# Altium footprint library WS-TASV.PcbLib: 37 footprints (part 1 of 3)
Each footprint in its own frame and in the unit in brackets; x right, y up, seen from the top. Pads: shape width x height; smd on the part's side, far side on the other; paste and mask are expansions set on the pad; w line width, h text height; cw(c..) or ccw(c..) is an arc to the next point about the centre after c.
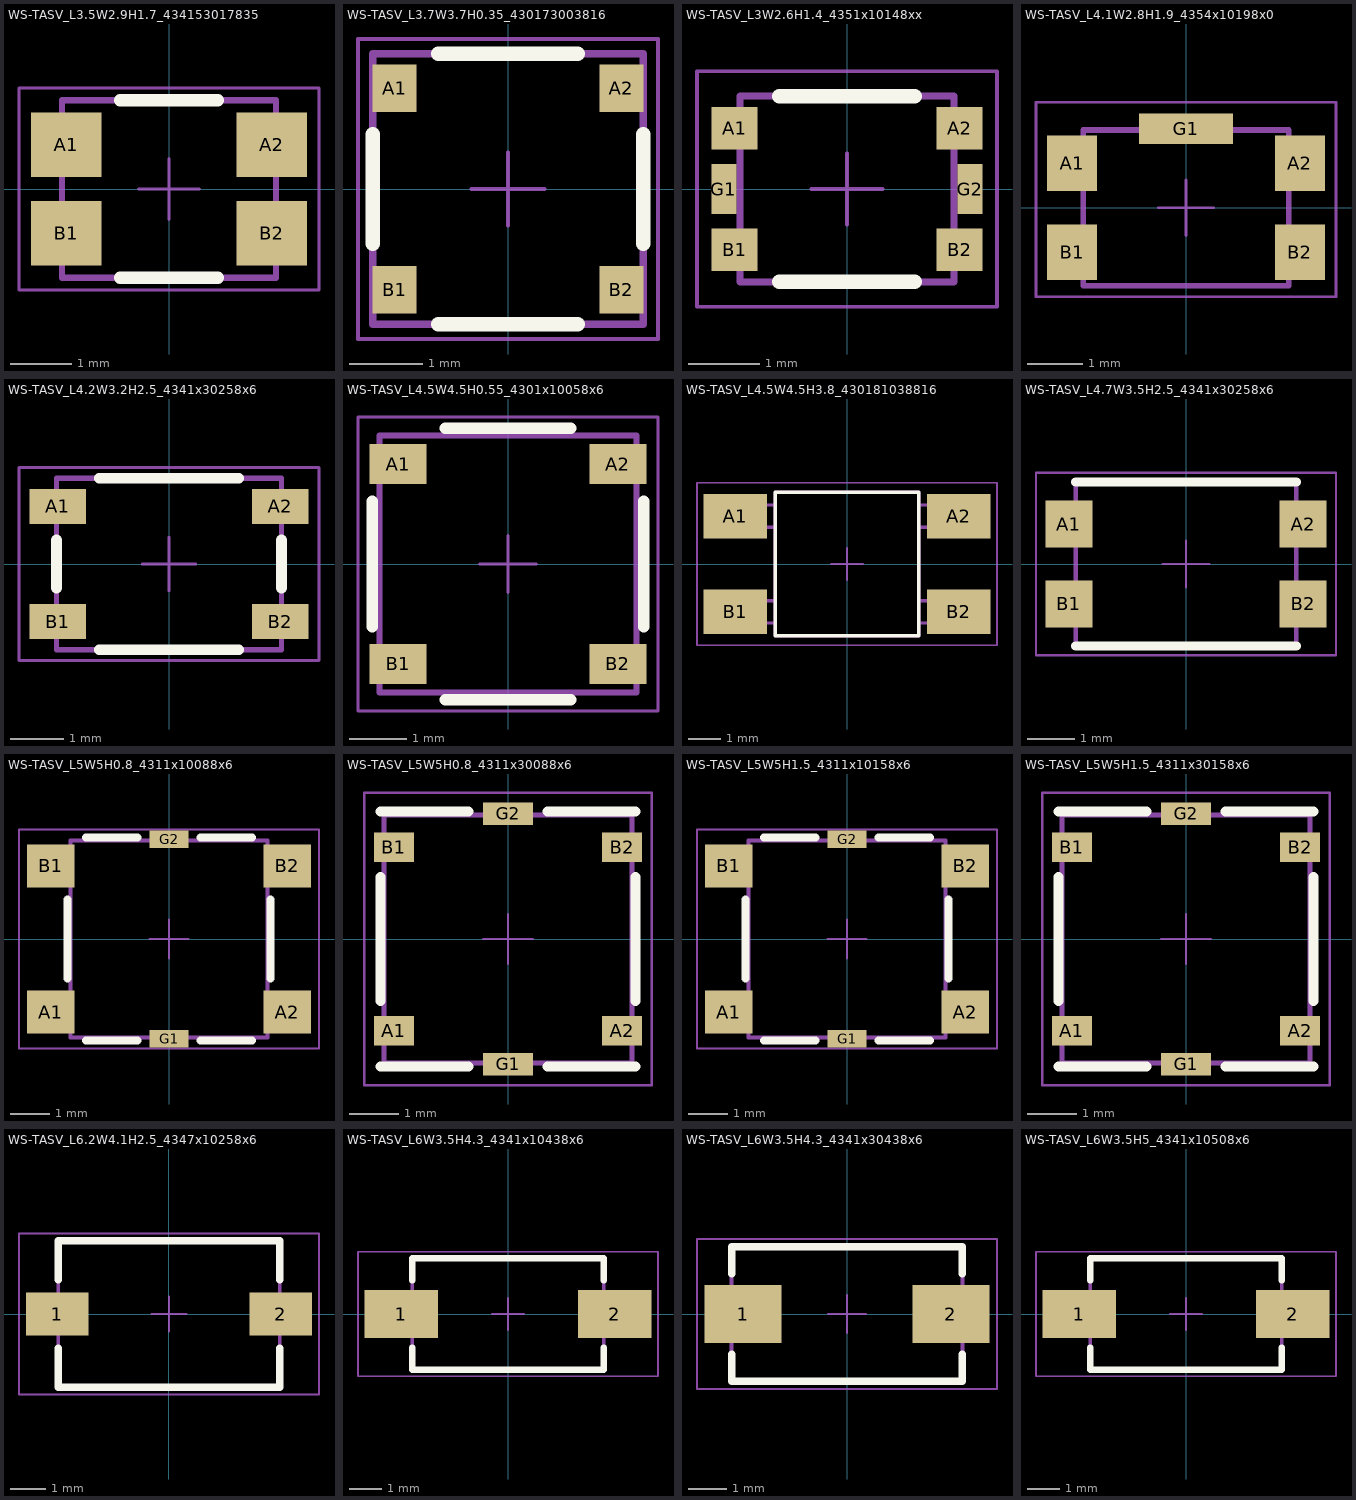
[diagram p0: the footprints below, top view; thin cyan lines are the x and y axes]

## WS-TASV_L3.5W2.9H1.7_434153017835 [mm] "Tact Switch, SMD, body 3.5x2.9mm"
height 1.7
pads (4):
  rect 1.15x1.05 smd: A1(-1.675,0.725) A2(1.675,0.725) B1(-1.675,-0.725) B2(1.675,-0.725)
Top Overlay:
  lines w0.2: -0.8,-1.45 0.8,-1.45 ; -0.8,1.45 0.8,1.45
Top Designator:
  text ".Designator" at -4.998,-0.333 h1
Top Component Outline:
  lines w0.1: -1.75,-1.45 1.75,-1.45 1.75,1.45 -1.75,1.45 -1.75,-1.45
Top 3D Body:
  lines w0.1: -1.75,-1.45 -1.75,1.45 1.75,1.45 1.75,-1.45 -1.75,-1.45
Top Courtyard:
  lines w0.05: -0.5,0 0.5,0 ; 0,-0.5 0,0.5 ; -2.45,-1.65 2.45,-1.65 2.45,1.65 -2.45,1.65 -2.45,-1.65
3D body "434153017835.stp": height 1.7, standoff 0, extent -2.147,-1.45 2.147,1.45

## WS-TASV_L3.7W3.7H0.35_430173003816 [mm] "Tact Switch, SMD, body 3.7x3.7mm"
height 0.35
pads (4):
  rect 0.6x0.65 smd: A1(-1.55,1.375) A2(1.55,1.375) B1(-1.55,-1.375) B2(1.55,-1.375)
Top Overlay:
  lines w0.2: -1.85,-0.75 -1.85,0.75 ; -0.95,-1.85 0.95,-1.85 ; -0.95,1.85 0.95,1.85 ; 1.85,-0.75 1.85,0.75
Top Designator:
  text ".Designator" at -4.998,-0.333 h1
Top Component Outline:
  lines w0.1: -1.85,-1.85 1.85,-1.85 1.85,1.85 -1.85,1.85 -1.85,-1.85
Top 3D Body:
  lines w0.1: -1.85,-1.85 -1.85,1.85 1.85,1.85 1.85,-1.85 -1.85,-1.85
Top Courtyard:
  lines w0.05: -0.5,0 0.5,0 ; 0,-0.5 0,0.5 ; -2.05,-2.05 2.05,-2.05 2.05,2.05 -2.05,2.05 -2.05,-2.05
3D body "4301x30038xx.stp": height 0.35, standoff 0, extent -1.85,-1.85 1.85,1.85

## WS-TASV_L3W2.6H1.4_4351x10148xx [mm] "SMD Tact Switch, body 3x2.6mm"
height 1.4
pads (6):
  rect 0.65x0.6 smd: A1(-1.575,0.85) A2(1.575,0.85) B1(-1.575,-0.85) B2(1.575,-0.85)
  rect 0.35x0.7 smd: G1(-1.725,0) G2(1.725,0)
Top Overlay:
  lines w0.2: -0.95,-1.3 0.95,-1.3 ; -0.95,1.3 0.95,1.3
Top Designator:
  text ".Designator" at -4.998,-0.333 h1
Top Component Outline:
  lines w0.1: -1.5,-1.3 1.5,-1.3 1.5,1.3 -1.5,1.3 -1.5,-1.3
Top 3D Body:
  lines w0.1: -1.5,-1.3 -1.5,1.3 1.5,1.3 1.5,-1.3 -1.5,-1.3
Top Courtyard:
  lines w0.05: -0.5,0 0.5,0 ; 0,-0.5 0,0.5 ; -2.1,-1.65 2.1,-1.65 2.1,1.65 -2.1,1.65 -2.1,-1.65
3D body "4351x10148xx.stp": height 1.43, standoff 0.02, extent -1.75,-1.3 1.75,1.3

## WS-TASV_L4.1W2.8H1.9_4354x10198x0 [mm] "Tact Switch, SMT, body 4.1x2.8mm"
height 1.9
pads (5):
  rect 0.9x1 smd: A1(-2.05,0.8) A2(2.05,0.8) B1(-2.05,-0.8) B2(2.05,-0.8)
  rect 1.7x0.55 smd: G1(0,1.425)
Top Designator:
  text ".Designator" at -5.998,-0.4 h1.2
Top Component Outline:
  lines w0.1: -1.85,-1.05 -2.3,-1.05 -2.3,-0.45 -1.85,-0.45 ; -1.85,0.45 -2.3,0.45 -2.3,1.05 -1.85,1.05 ; 1.85,-1.05 2.3,-1.05 2.3,-0.45 1.85,-0.45 ; 1.85,0.45 2.3,0.45 2.3,1.05 1.85,1.05 ; -1.85,-1.4 1.85,-1.4 1.85,1.4 -1.85,1.4 -1.85,-1.4
Top 3D Body:
  lines w0.1: -1.85,-1.05 -2.3,-1.05 -2.3,-0.45 -1.85,-0.45 ; -1.85,0.45 -2.3,0.45 -2.3,1.05 -1.85,1.05 ; 1.85,-1.05 2.3,-1.05 2.3,-0.45 1.85,-0.45 ; 1.85,0.45 2.3,0.45 2.3,1.05 1.85,1.05 ; -1.85,-1.4 -1.85,1.4 1.85,1.4 1.85,-1.4 -1.85,-1.4
Top Courtyard:
  lines w0.05: -0.5,0 0.5,0 ; 0,-0.5 0,0.5 ; -2.7,-1.6 -2.7,1.9 2.7,1.9 2.7,-1.6 -2.7,-1.6
3D body "435441019830.stp": height 1.9, standoff -0.01, extent -2.3,-1.4 2.3,1.45

## WS-TASV_L4.2W3.2H2.5_4341x30258x6 [mm] "Tact Switch, SMD, body 4.2x3.2mm"
height 2.5
pads (4):
  rect 1.05x0.65 smd: A1(-2.075,1.075) A2(2.075,1.075) B1(-2.075,-1.075) B2(2.075,-1.075)
Top Overlay:
  lines w0.2: -2.1,-0.45 -2.1,0.45 ; -1.3,-1.6 1.3,-1.6 ; -1.3,1.6 1.3,1.6 ; 2.1,-0.45 2.1,0.45
Top Designator:
  text ".Designator" at -4.998,-0.333 h1
Top Component Outline:
  lines w0.1: -2.1,-1.6 -2.1,1.6 2.1,1.6 2.1,-1.6 -2.1,-1.6
Top 3D Body:
  lines w0.1: -2.1,-1.6 2.1,-1.6 2.1,1.6 -2.1,1.6 -2.1,-1.6
Top Courtyard:
  lines w0.05: -0.5,0 0.5,0 ; 0,-0.5 0,0.5 ; -2.8,-1.8 -2.8,1.8 2.8,1.8 2.8,-1.8 -2.8,-1.8
3D body "4341x30258x6.stp": height 2.5, standoff 0, extent -2.299,-1.6 2.299,1.6

## WS-TASV_L4.5W4.5H0.55_4301x10058x6 [mm] "Tact Switch, SMD, body 4.5x4.5mm"
height 0.55
pads (4):
  rect 1x0.7 smd: A1(-1.925,1.75) A2(1.925,1.75) B1(-1.925,-1.75) B2(1.925,-1.75)
Top Overlay:
  lines w0.2: -2.375,-1.1 -2.375,1.1 ; -1.1,-2.375 1.1,-2.375 ; -1.1,2.375 1.1,2.375 ; 2.375,-1.1 2.375,1.1
Top Designator:
  text ".Designator" at -4.998,-0.333 h1
Top Component Outline:
  lines w0.1: -2.25,-2.25 2.25,-2.25 2.25,2.25 -2.25,2.25 -2.25,-2.25
Top 3D Body:
  lines w0.1: -2.25,-2.25 -2.25,2.25 2.25,2.25 2.25,-2.25 -2.25,-2.25
Top Courtyard:
  lines w0.05: -0.5,0 0.5,0 ; 0,-0.5 0,0.5 ; -2.625,-2.575 2.625,-2.575 2.625,2.575 -2.625,2.575 -2.625,-2.575
3D body "4301x10058x6.stp": height 0.55, standoff -0.01, extent -2.375,-2.25 2.375,2.25

## WS-TASV_L4.5W4.5H3.8_430181038816 [mm] "Tact Switch, SMD, body 4.5x4.5mm"
height 3.8
pads (4):
  rect 2x1.4 smd: A1(-3.5,1.5) A2(3.5,1.5) B1(-3.5,-1.5) B2(3.5,-1.5)
Top Overlay:
  lines w0.1: -2.25,-2.25 -2.25,2.25 2.25,2.25 2.25,-2.25 -2.25,-2.25
Top Designator:
  text ".Designator" at -4.998,-0.333 h1
Top Component Outline:
  lines w0.1: -2.25,-1.85 -3.75,-1.85 -3.75,-1.15 -2.25,-1.15 ; -2.25,1.15 -3.75,1.15 -3.75,1.85 -2.25,1.85 ; 2.25,-1.85 3.75,-1.85 3.75,-1.15 2.25,-1.15 ; 2.25,1.15 3.75,1.15 3.75,1.85 2.25,1.85 ; -2.25,-2.25 -2.25,2.25 2.25,2.25 2.25,-2.25 -2.25,-2.25
Top 3D Body:
  lines w0.1: -2.25,-1.85 -3.75,-1.85 -3.75,-1.15 -2.25,-1.15 ; -2.25,1.15 -3.75,1.15 -3.75,1.85 -2.25,1.85 ; 2.25,-1.85 3.75,-1.85 3.75,-1.15 2.25,-1.15 ; 2.25,1.15 3.75,1.15 3.75,1.85 2.25,1.85 ; -2.25,-2.25 2.25,-2.25 2.25,2.25 -2.25,2.25 -2.25,-2.25
Top Courtyard:
  lines w0.05: -0.5,0 0.5,0 ; 0,-0.5 0,0.5 ; -4.7,-2.55 -4.7,2.55 4.7,2.55 4.7,-2.55 -4.7,-2.55
3D body "430181038816.stp": height 3.8, standoff 0, extent -3.75,-2.25 3.75,2.25

## WS-TASV_L4.7W3.5H2.5_4341x30258x6 [mm] "Tact Switch, SMD, body 4.7x3.5mm"
height 2.5
pads (4):
  rect 1x1 smd: A1(-2.5,0.85) A2(2.5,0.85) B1(-2.5,-0.85) B2(2.5,-0.85)
Top Overlay:
  lines w0.2: -2.35,-1.75 2.35,-1.75 ; -2.35,1.75 2.35,1.75
Top Designator:
  text ".Designator" at -4.998,-0.333 h1
Top Component Outline:
  lines w0.1: -2.35,-1.75 -2.35,1.75 2.35,1.75 2.35,-1.75 -2.35,-1.75
Top 3D Body:
  lines w0.1: -2.35,-1.75 2.35,-1.75 2.35,1.75 -2.35,1.75 -2.35,-1.75
Top Courtyard:
  lines w0.05: -0.5,0 0.5,0 ; 0,-0.5 0,0.5 ; -3.2,-1.95 -3.2,1.95 3.2,1.95 3.2,-1.95 -3.2,-1.95
3D body "4341x30258x6.stp": height 2.55, standoff 0, extent -2.753,-1.75 2.753,1.75

## WS-TASV_L5W5H0.8_4311x10088x6 [mm] "Tact Switch, SMD, body 5x5mm"
height 0.8
pads (6):
  rect 1.2x1.1 smd: A1(-3,-1.85) A2(3,-1.85) B1(-3,1.85) B2(3,1.85)
  rect 1x0.45 smd: G1(0,-2.525) G2(0,2.525)
Top Overlay:
  lines w0.2: -2.575,-1 -2.575,1 ; -2.1,-2.575 -0.8,-2.575 ; -2.1,2.575 -0.8,2.575 ; 0.8,-2.575 2.1,-2.575 ; 0.8,2.575 2.1,2.575 ; 2.575,-1 2.575,1
Top Designator:
  text ".Designator" at -4.998,-0.333 h1
Top Component Outline:
  lines w0.1: -2.5,-2.1 -3.1,-2.1 -3.1,-1.6 -2.5,-1.6 ; -2.5,1.6 -3.1,1.6 -3.1,2.1 -2.5,2.1 ; 2.5,-2.1 3.1,-2.1 3.1,-1.6 2.5,-1.6 ; 2.5,1.6 3.1,1.6 3.1,2.1 2.5,2.1 ; -2.5,-2.5 2.5,-2.5 2.5,2.5 -2.5,2.5 -2.5,-2.5
Top 3D Body:
  lines w0.1: -2.5,-2.1 -3.1,-2.1 -3.1,-1.6 -2.5,-1.6 ; -2.5,1.6 -3.1,1.6 -3.1,2.1 -2.5,2.1 ; 2.5,-2.1 3.1,-2.1 3.1,-1.6 2.5,-1.6 ; 2.5,1.6 3.1,1.6 3.1,2.1 2.5,2.1 ; -2.5,-2.5 -2.5,2.5 2.5,2.5 2.5,-2.5 -2.5,-2.5
Top Courtyard:
  lines w0.05: -0.5,0 0.5,0 ; 0,-0.5 0,0.5 ; -3.8,-2.775 3.8,-2.775 3.8,2.775 -3.8,2.775 -3.8,-2.775
3D body "4311x10088x6.stp": height 0.8, standoff 0, extent -3.1,-2.5 3.1,2.5

## WS-TASV_L5W5H0.8_4311x30088x6 [mm] "Tact Switch, SMD, body 5x5mm"
height 0.8
pads (6):
  rect 0.8x0.6 smd: A1(-2.3,-1.85) A2(2.3,-1.85) B1(-2.3,1.85) B2(2.3,1.85)
  rect 1x0.45 smd: G1(0,-2.525) G2(0,2.525)
Top Overlay:
  lines w0.2: -2.575,-2.575 -0.8,-2.575 ; -2.575,-1.25 -2.575,1.25 ; -2.575,2.575 -0.8,2.575 ; 0.8,-2.575 2.575,-2.575 ; 0.8,2.575 2.575,2.575 ; 2.575,-1.25 2.575,1.25
Top Designator:
  text ".Designator" at -4.998,-0.333 h1
Top Component Outline:
  lines w0.1: -2.5,-2.5 2.5,-2.5 2.5,2.5 -2.5,2.5 -2.5,-2.5
Top 3D Body:
  lines w0.1: -2.5,-2.5 -2.5,2.5 2.5,2.5 2.5,-2.5 -2.5,-2.5
Top Courtyard:
  lines w0.05: -0.5,0 0.5,0 ; 0,-0.5 0,0.5 ; -2.9,-2.95 2.9,-2.95 2.9,2.95 -2.9,2.95 -2.9,-2.95
3D body "4311x30088x6.stp": height 0.8, standoff 0, extent -2.55,-2.5 2.55,2.5

## WS-TASV_L5W5H1.5_4311x10158x6 [mm] "Tact Switch, SMD, body 5x5mm"
height 1.5
pads (6):
  rect 1.2x1.1 smd: A1(-3,-1.85) A2(3,-1.85) B1(-3,1.85) B2(3,1.85)
  rect 1x0.45 smd: G1(0,-2.525) G2(0,2.525)
Top Overlay:
  lines w0.2: -2.575,-1 -2.575,1 ; -2.1,-2.575 -0.8,-2.575 ; -2.1,2.575 -0.8,2.575 ; 0.8,-2.575 2.1,-2.575 ; 0.8,2.575 2.1,2.575 ; 2.575,-1 2.575,1
Top Designator:
  text ".Designator" at -4.998,-0.333 h1
Top Component Outline:
  lines w0.1: -2.5,-2.1 -3.1,-2.1 -3.1,-1.6 -2.5,-1.6 ; -2.5,1.6 -3.1,1.6 -3.1,2.1 -2.5,2.1 ; 2.5,-2.1 3.1,-2.1 3.1,-1.6 2.5,-1.6 ; 2.5,1.6 3.1,1.6 3.1,2.1 2.5,2.1 ; -2.5,-2.5 2.5,-2.5 2.5,2.5 -2.5,2.5 -2.5,-2.5
Top 3D Body:
  lines w0.1: -2.5,-2.1 -3.1,-2.1 -3.1,-1.6 -2.5,-1.6 ; -2.5,1.6 -3.1,1.6 -3.1,2.1 -2.5,2.1 ; 2.5,-2.1 3.1,-2.1 3.1,-1.6 2.5,-1.6 ; 2.5,1.6 3.1,1.6 3.1,2.1 2.5,2.1 ; -2.5,-2.5 -2.5,2.5 2.5,2.5 2.5,-2.5 -2.5,-2.5
Top Courtyard:
  lines w0.05: -0.5,0 0.5,0 ; 0,-0.5 0,0.5 ; -3.8,-2.775 -3.8,2.775 3.8,2.775 3.8,-2.775 -3.8,-2.775
3D body "4311x10158x6.stp": height 1.5, standoff 0, extent -3.1,-2.5 3.1,2.5

## WS-TASV_L5W5H1.5_4311x30158x6 [mm] "Tact Switch, SMD, body 5x5mm"
height 1.5
pads (6):
  rect 0.8x0.6 smd: A1(-2.3,-1.85) A2(2.3,-1.85) B1(-2.3,1.85) B2(2.3,1.85)
  rect 1x0.45 smd: G1(0,-2.525) G2(0,2.525)
Top Overlay:
  lines w0.2: -2.575,-2.575 -0.8,-2.575 ; -2.575,-1.25 -2.575,1.25 ; -2.575,2.575 -0.8,2.575 ; 0.8,-2.575 2.575,-2.575 ; 0.8,2.575 2.575,2.575 ; 2.575,-1.25 2.575,1.25
Top Designator:
  text ".Designator" at -4.998,-0.333 h1
Top Component Outline:
  lines w0.1: -2.5,-2.5 2.5,-2.5 2.5,2.5 -2.5,2.5 -2.5,-2.5
Top 3D Body:
  lines w0.1: -2.5,-2.5 -2.5,2.5 2.5,2.5 2.5,-2.5 -2.5,-2.5
Top Courtyard:
  lines w0.05: -0.5,0 0.5,0 ; 0,-0.5 0,0.5 ; -2.9,-2.95 2.9,-2.95 2.9,2.95 -2.9,2.95 -2.9,-2.95
3D body "4311x30158x6.stp": height 1.5, standoff 0, extent -2.55,-2.5 2.55,2.5

## WS-TASV_L6.2W4.1H2.5_4347x10258x6 [mm] "SMT IP67 Tact Switch"
height 2.5
pads (2):
  rect 1.75x1.2 smd: 1(-3.125,0) 2(3.125,0)
Top Overlay:
  lines w0.2: -3.1,-0.95 -3.1,-2.05 3.1,-2.05 3.1,-0.95 ; -3.1,0.95 -3.1,2.05 3.1,2.05 3.1,0.95
Top Designator:
  text ".Designator" at -4.998,-0.333 h1
Top Component Outline:
  lines w0.1: -3.1,-0.45 -3.65,-0.45 -3.65,0.45 -3.1,0.45 ; 3.1,-0.45 3.65,-0.45 3.65,0.45 3.1,0.45 ; -3.1,-2.05 3.1,-2.05 3.1,2.05 -3.1,2.05 -3.1,-2.05
Top 3D Body:
  lines w0.1: -3.1,-0.45 -3.65,-0.45 -3.65,0.45 -3.1,0.45 ; 3.1,-0.45 3.65,-0.45 3.65,0.45 3.1,0.45 ; -3.1,-2.05 -3.1,2.05 3.1,2.05 3.1,-2.05 -3.1,-2.05
Top Courtyard:
  lines w0.05: -0.5,0 0.5,0 ; 0,-0.5 0,0.5 ; -4.2,-2.25 -4.2,2.25 4.2,2.25 4.2,-2.25 -4.2,-2.25
3D body "434781025816.stp": height 2.5, standoff 0, extent -3.65,-2.1 3.65,2.1

## WS-TASV_L6W3.5H4.3_4341x10438x6 [mm] "SMD Tact Switch, body 6x3.5mm"
height 4.3
pads (2):
  rect 2.3x1.5 smd: 1(-3.35,0) 2(3.35,0)
Top Overlay:
  lines w0.2: -3,-1.05 -3,-1.75 3,-1.75 3,-1.05 ; -3,1.05 -3,1.75 3,1.75 3,1.05
Top Designator:
  text ".Designator" at -4.998,-0.333 h1
Top Component Outline:
  lines w0.1: -3,-0.5 -4,-0.5 -4,0.5 -3,0.5 ; 3,-0.5 4,-0.5 4,0.5 3,0.5 ; -3,-1.75 -3,1.75 3,1.75 3,-1.75 -3,-1.75
Top 3D Body:
  lines w0.1: -3,-0.5 -4,-0.5 -4,0.5 -3,0.5 ; 3,-0.5 4,-0.5 4,0.5 3,0.5 ; -3,-1.75 3,-1.75 3,1.75 -3,1.75 -3,-1.75
Top Courtyard:
  lines w0.05: -0.5,0 0.5,0 ; 0,-0.5 0,0.5 ; -4.7,-1.95 -4.7,1.95 4.7,1.95 4.7,-1.95 -4.7,-1.95
3D body "4341x10438x6.stp": height 4.3, standoff 0, extent -4,-1.75 4,1.75

## WS-TASV_L6W3.5H4.3_4341x30438x6 [mm] "SMD Tact Switch, body 6x3.5mm"
height 4.3
pads (2):
  rect 2x1.5 smd: 1(-2.7,0) 2(2.7,0)
Top Overlay:
  lines w0.2: -3,-1.05 -3,-1.75 3,-1.75 3,-1.05 ; -3,1.05 -3,1.75 3,1.75 3,1.05
Top Designator:
  text ".Designator" at -4.998,-0.333 h1
Top Component Outline:
  lines w0.1: -3,-1.75 -3,1.75 3,1.75 3,-1.75 -3,-1.75
Top 3D Body:
  lines w0.1: -3,-1.75 3,-1.75 3,1.75 -3,1.75 -3,-1.75
Top Courtyard:
  lines w0.05: -0.5,0 0.5,0 ; 0,-0.5 0,0.5 ; -3.9,-1.95 3.9,-1.95 3.9,1.95 -3.9,1.95 -3.9,-1.95
3D body "4341x30438x6.stp": height 4.3, standoff 0, extent -3.649,-1.75 3.65,1.75

## WS-TASV_L6W3.5H5_4341x10508x6 [mm] "SMD Tact Switch, body 6x3.5mm"
height 5
pads (2):
  rect 2.3x1.5 smd: 1(-3.35,0) 2(3.35,0)
Top Overlay:
  lines w0.2: -3,-1.05 -3,-1.75 3,-1.75 3,-1.05 ; -3,1.05 -3,1.75 3,1.75 3,1.05
Top Designator:
  text ".Designator" at -4.998,-0.333 h1
Top Component Outline:
  lines w0.1: -3,-0.5 -4,-0.5 -4,0.5 -3,0.5 ; 3,-0.5 4,-0.5 4,0.5 3,0.5 ; -3,-1.75 3,-1.75 3,1.75 -3,1.75 -3,-1.75
Top 3D Body:
  lines w0.1: -3,-0.5 -4,-0.5 -4,0.5 -3,0.5 ; 3,-0.5 4,-0.5 4,0.5 3,0.5 ; -3,-1.75 -3,1.75 3,1.75 3,-1.75 -3,-1.75
Top Courtyard:
  lines w0.05: -0.5,0 0.5,0 ; 0,-0.5 0,0.5 ; -4.7,-1.95 4.7,-1.95 4.7,1.95 -4.7,1.95 -4.7,-1.95
3D body "4341x10508x6.stp": height 5, standoff 0, extent -4,-1.75 4,1.75